# EAGLE library part M25PX16 (library C3-Micron)
Micron 16Mb, 2.3-3.6V, SPI, NOR Flash Memory
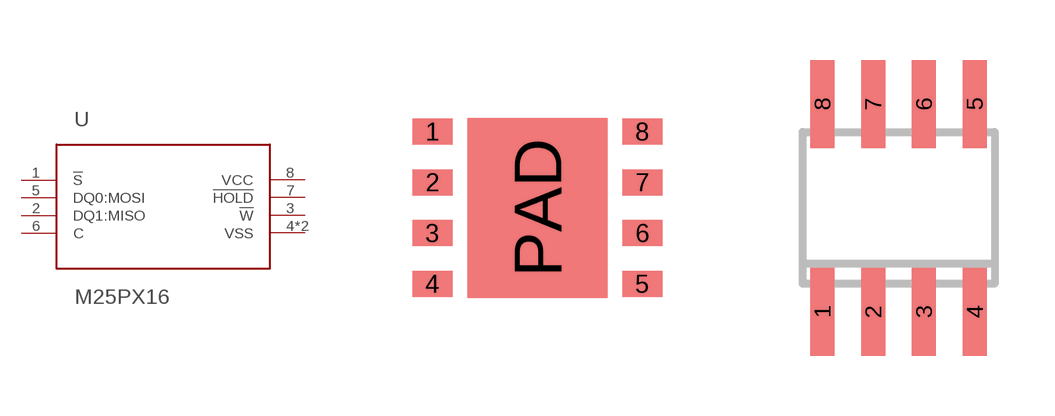
[diagram p0: symbol with the pads of MLP-6X5-8; footprints MLP-6X5-8, SO08]

Designator prefix U

## M25PX16MP (BUSTYPE: Serial; FLASHTYPE: NOR; PROTOCOL: SPI; SIZE: 16Mb; SUPPLIER: Micron; VMAX: 3.6V; VMIN: 2.3V)  [MLP-6X5-8]
1  !S  in
2  DQ1:MISO  out
3  !W  in
4  VSS  pwr
5  DQ0:MOSI  in
6  C  in
7  !HOLD  in
8  VCC  pwr
PAD  VSS  pwr

## M25PX16MN  [SO08]
1  !S  in
2  DQ1:MISO  out
3  !W  in
4  VSS  pwr
5  DQ0:MOSI  in
6  C  in
7  !HOLD  in
8  VCC  pwr

## M25PX16MW  [SO08W]
Pads as for SO08

## Footprint MLP-6X5-8 (pad centres in mm)
MLP 6x5 8-lead land pattern Datasheet <http://www.fairchildsemi.com/an/AN/AN-5067.pdf>
smd 1 x 0.65: 1 -2.625,1.905; 2 -2.625,0.635; 3 -2.625,-0.635; 4 -2.625,-1.905; 5 2.625,-1.905; 6 2.625,-0.635; 7 2.625,0.635; 8 2.625,1.905
smd 3.5 x 4.5: PAD 0,0

## Footprint SO08 (pad centres in mm)
SMALL OUTLINE INTEGRATED CIRCUIT body 3.9 mm/JEDEC MS-012AA
smd 0.6 x 2.2: 1 -1.905,-2.6; 2 -0.635,-2.6; 3 0.635,-2.6; 4 1.905,-2.6; 5 1.905,2.6; 6 0.635,2.6; 7 -0.635,2.6; 8 -1.905,2.6

## Footprint SO08W (pad centres in mm)
SMALL OUTLINE INTEGRATED CIRCUIT wide body 7.5 mm/JEDEC MA-012AB
smd 0.6 x 2.2: 1 -1.905,-4.6; 2 -0.635,-4.6; 3 0.635,-4.6; 4 1.905,-4.6; 5 1.905,4.6; 6 0.635,4.6; 7 -0.635,4.6; 8 -1.905,4.6